# EAGLE library part DAC7800 (library burr-brown)
Dual Monolithic CMOS 12-Bit DAC Multiplying
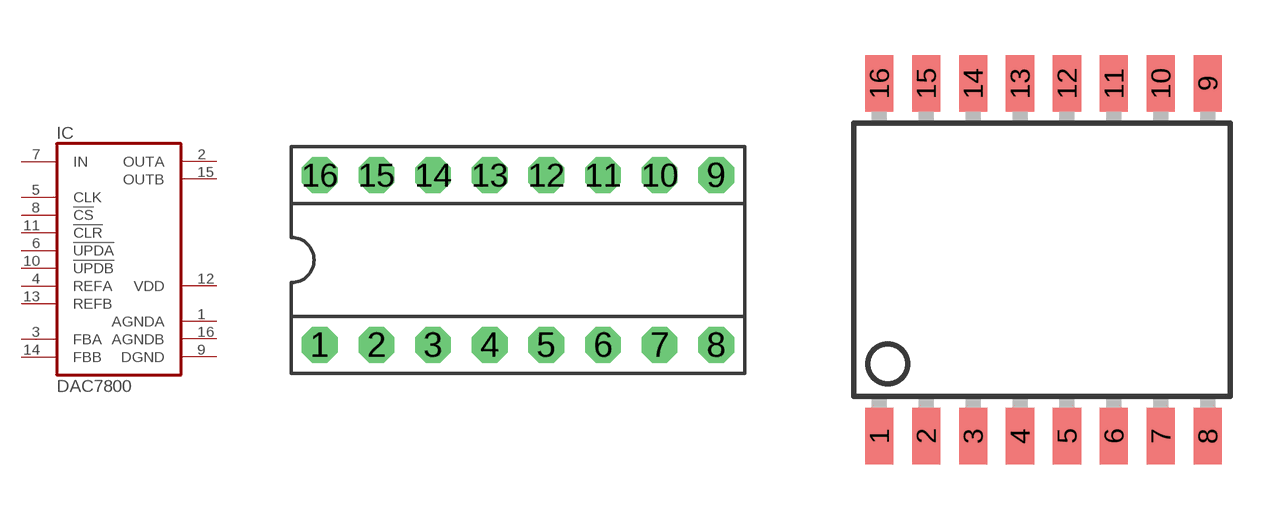
[diagram p23: symbol with the pads of DIL16; footprints DIL16, SO16-1]

Designator prefix IC

## DAC7800P (MPN: DAC7800LPG4)  [DIL16]
1  AGNDA  pwr
2  OUTA  out
3  FBA  pas
4  REFA  in
5  CLK  in
6  !UPDA  in
7  IN  in
8  !CS  in
9  DGND  pwr
10  !UPDB  in
11  !CLR  in
12  VDD  pwr
13  REFB  in
14  FBB  pas
15  OUTB  out
16  AGNDB  pwr

## DAC7800U (MPN: DAC7800KU)  [SO16-1]
Pads as for DIL16

## Footprint DIL16 (pad centres in mm)
Dual In Line
drill 0.813 pad 1.6 octagon: 1 -8.89,-3.81; 2 -6.35,-3.81; 3 -3.81,-3.81; 4 -1.27,-3.81; 5 1.27,-3.81; 6 3.81,-3.81; 7 6.35,-3.81; 8 8.89,-3.81; 9 8.89,3.81; 10 6.35,3.81; 11 3.81,3.81; 12 1.27,3.81; 13 -1.27,3.81; 14 -3.81,3.81; 15 -6.35,3.81; 16 -8.89,3.81

## Footprint SO16-1 (pad centres in mm)
Small Outline Package
smd 0.762 x 1.524: 1 -4.445,-4.775; 2 -3.175,-4.775; 3 -1.905,-4.775; 4 -0.635,-4.775; 5 0.635,-4.775; 6 1.905,-4.775; 7 3.175,-4.775; 8 4.445,-4.775; 9 4.445,4.775; 10 3.175,4.775; 11 1.905,4.775; 12 0.635,4.775; 13 -0.635,4.775; 14 -1.905,4.775; 15 -3.175,4.775; 16 -4.445,4.775